# EAGLE library part 14011213102000 (library PCB_KioskMB_r3.3-05)
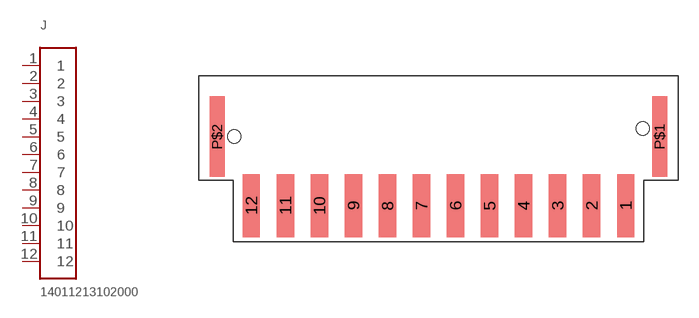
[diagram p32: symbol with the pads of 14011213102000; footprint 14011213102000]

Designator prefix J

## 14011213102000  [14011213102000]
1  1
2  2
3  3
4  4
5  5
6  6
7  7
8  8
9  9
10  10
11  11
12  12

## Footprint 14011213102000 (pad centres in mm)
smd 1.3 x 4.7: 1 13.97,-4.4; 2 11.43,-4.4; 3 8.89,-4.4; 4 6.35,-4.4; 5 3.81,-4.4; 6 1.27,-4.4; 7 -1.27,-4.4; 8 -3.81,-4.4; 9 -6.35,-4.4; 10 -8.89,-4.4; 11 -11.43,-4.4; 12 -13.97,-4.4
smd 1.1 x 6: P$1 16.51,0.75; P$2 -16.51,0.75
hole 1 at -15.24,0.75
hole 1 at 15.24,1.35